# EAGLE library part 52559-1792 (library con-molex)
FFC/FPC-to-Board 0.50mm (.020") SMT, Vertical, ZIF Receptacle Source: http://www.molex.com/product/ffc/52559.html
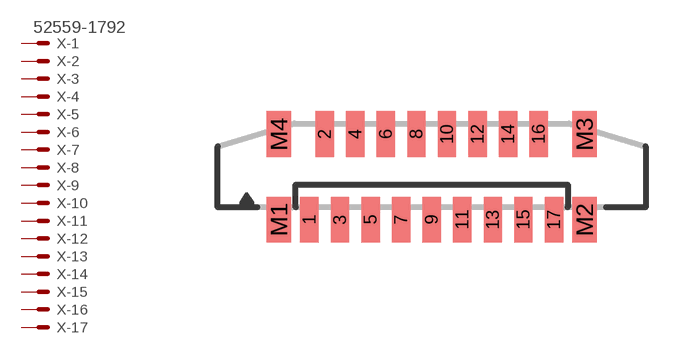
[diagram p149: symbol with the pads of 52559-1792; footprint 52559-1792]

Designator prefix X; gates -1=MV -2=M -3=M -4=M -5=M -6=M -7=M -8=M -9=M -10=M -11=M -12=M -13=M -14=M -15=M -16=M -17=M

## 52559-1792 (MF: MOLEX; OC_FARNELL: unknown; OC_NEWARK: unknown)  [52559-1792]
1  -1:S  pas
2  -2:S  pas
3  -3:S  pas
4  -4:S  pas
5  -5:S  pas
6  -6:S  pas
7  -7:S  pas
8  -8:S  pas
9  -9:S  pas
10  -10:S  pas
11  -11:S  pas
12  -12:S  pas
13  -13:S  pas
14  -14:S  pas
15  -15:S  pas
16  -16:S  pas
17  -17:S  pas

## Footprint 52559-1792 (pad centres in mm)
Easy-On™ Type FFC/FPC Connector, Vertical, Surface Mount, ZIF, 17 Circuits, with Tape Packaging Center Placement Holes Datasheet <http://www.molex.com/pdm_docs/sd/525591733_sd.pdf>
smd 0.6 x 1.5: 1 -4,-1.4; 2 -3.5,1.4; 3 -3,-1.4; 4 -2.5,1.4; 5 -2,-1.4; 6 -1.5,1.4; 7 -1,-1.4; 8 -0.5,1.4; 9 0,-1.4; 10 0.5,1.4; 11 1,-1.4; 12 1.5,1.4; 13 2,-1.4; 14 2.5,1.4; 15 3,-1.4; 16 3.5,1.4; 17 4,-1.4
smd 0.8 x 1.5: M1 -5,-1.4; M2 5,-1.4; M3 5,1.4; M4 -5,1.4